# EAGLE library part EFM32TG11B1*M32 (library EFM32)
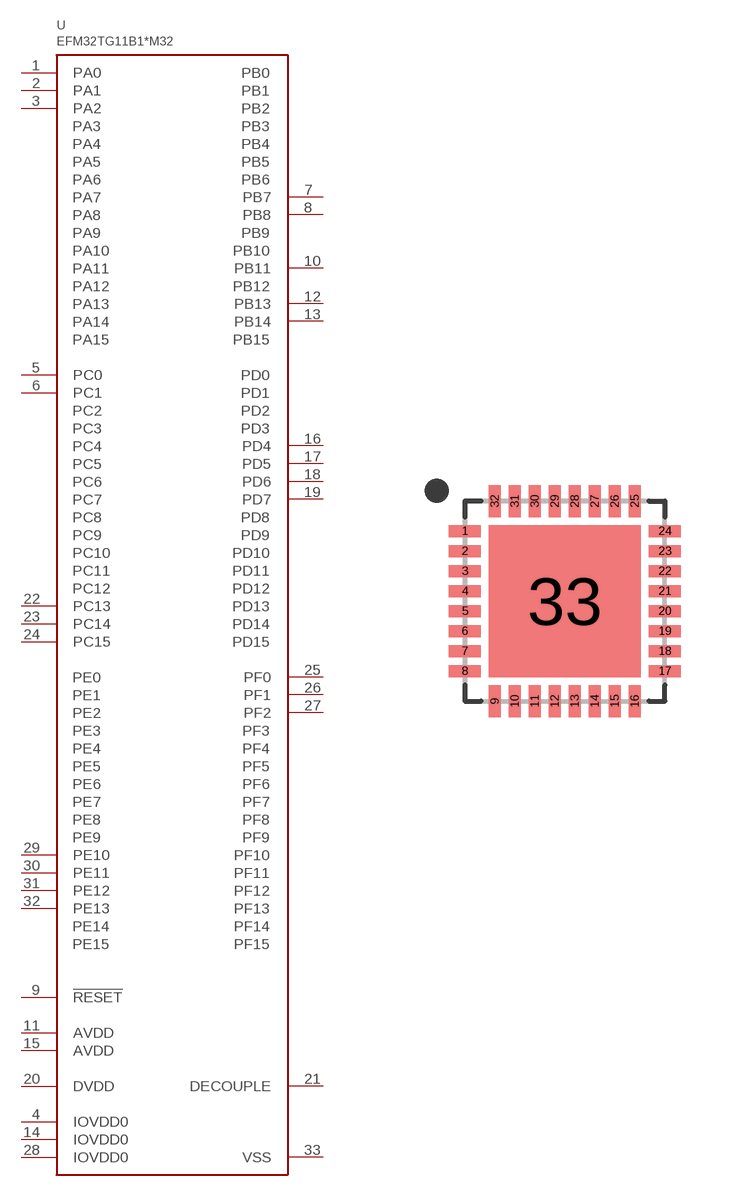
[diagram p23: symbol with the pads of QFN32_0.5P_TG; footprint QFN32_0.5P_TG]

Designator prefix U

## EFM32TG11B120F128GM32, EFM32TG11B120F128IM32, EFM32TG11B140F64GM32, EFM32TG11B140F64IM32  [QFN32_0.5P_TG]
1  PA0
2  PA1
3  PA2
4  IOVDD0
5  PC0
6  PC1
7  PB7
8  PB8
9  !RESET
10  PB11
11  AVDD
12  PB13
13  PB14
14  IOVDD0
15  AVDD
16  PD4
17  PD5
18  PD6
19  PD7
20  DVDD
21  DECOUPLE
22  PC13
23  PC14
24  PC15
25  PF0
26  PF1
27  PF2
28  IOVDD0
29  PE10
30  PE11
31  PE12
32  PE13
33  VSS

## Footprint QFN32_0.5P_TG (pad centres in mm)
smd 0.8 x 0.3: 1 -2.5,1.75; 2 -2.5,1.25; 3 -2.5,0.75; 4 -2.5,0.25; 5 -2.5,-0.25; 6 -2.5,-0.75; 7 -2.5,-1.25; 8 -2.5,-1.75; 17 2.5,-1.75; 18 2.5,-1.25; 19 2.5,-0.75; 20 2.5,-0.25; 21 2.5,0.25; 22 2.5,0.75; 23 2.5,1.25; 24 2.5,1.75
smd 0.3 x 0.8: 9 -1.75,-2.5; 10 -1.25,-2.5; 11 -0.75,-2.5; 12 -0.25,-2.5; 13 0.25,-2.5; 14 0.75,-2.5; 15 1.25,-2.5; 16 1.75,-2.5; 25 1.75,2.5; 26 1.25,2.5; 27 0.75,2.5; 28 0.25,2.5; 29 -0.25,2.5; 30 -0.75,2.5; 31 -1.25,2.5; 32 -1.75,2.5
smd 3.8 x 3.8: 33 0,0